# Altium footprint library QFN-20.PcbLib: 1 footprints
Each footprint in its own frame and in the unit in brackets; x right, y up, seen from the top. Pads: shape width x height; smd on the part's side, far side on the other; paste and mask are expansions set on the pad; w line width, h text height; cw(c..) or ccw(c..) is an arc to the next point about the centre after c.
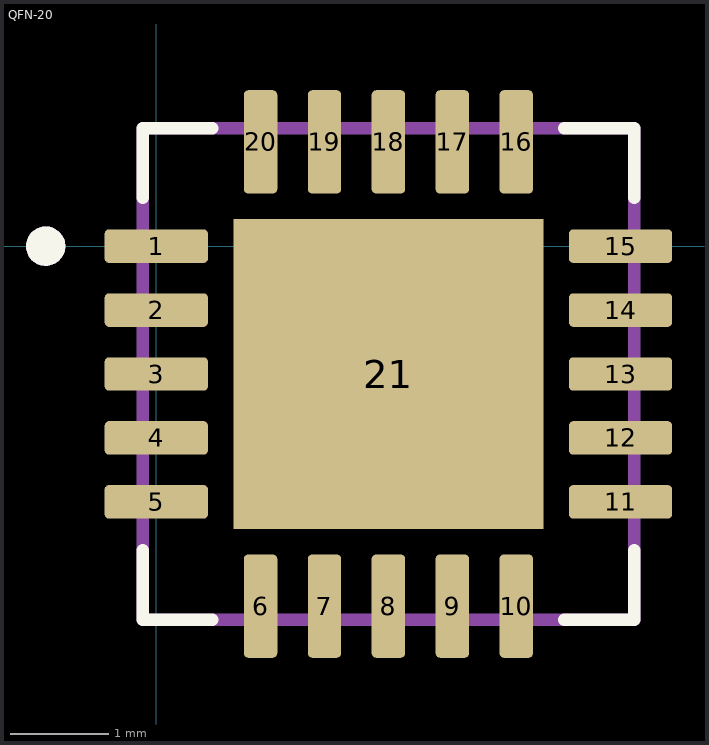
[diagram p0: the footprint, top view; thin cyan lines are the x and y axes]

## QFN-20 [mm]
pads (21):
  rrect25% 1.05x0.34 smd: 1(0,0) 2(0,-0.65) 3(0,-1.3) 4(0,-1.95) 5(0,-2.6) 11(4.72,-2.6) 12(4.72,-1.95) 13(4.72,-1.3) 14(4.72,-0.65) 15(4.72,0)
  rrect25% 0.34x1.05 smd: 6(1.06,-3.66) 7(1.71,-3.66) 8(2.36,-3.66) 9(3.01,-3.66) 10(3.66,-3.66) 16(3.66,1.06) 17(3.01,1.06) 18(2.36,1.06) 19(1.71,1.06) 20(1.06,1.06)
  rect 3.15x3.15 smd paste-3: 21(2.36,-1.3)
Top Overlay:
  circle w0.2: c-1.125,0 r0.1
  lines w0.127: -0.14,-3.09 -0.14,-3.8 0.57,-3.8 ; -0.14,0.49 -0.14,1.2 0.57,1.2 ; 4.15,-3.8 4.86,-3.8 4.86,-3.09 ; 4.15,1.2 4.86,1.2 4.86,0.49
Top Paste:
  region: 3.555,-2.495 2.555,-2.495 2.555,-1.495 3.555,-1.495
  region: 3.555,-1.105 2.555,-1.105 2.555,-0.105 3.555,-0.105
  region: 2.165,-1.105 1.165,-1.105 1.165,-0.105 2.165,-0.105
  region: 2.165,-2.495 1.165,-2.495 1.165,-1.495 2.165,-1.495
Mechanical 13:
  circle w0.2: c-1.125,0 r0.1
  lines w0.127: -0.14,-3.8 -0.14,1.2 4.86,1.2 4.86,-3.8 -0.14,-3.8
3D body "VQFN-20.STEP": height 1, standoff 0, extent -0.139,-3.801 4.861,1.199